# Altium schematic symbol library CF14JT10K0.SchLib: 1 symbol
Pins are listed as number, name and electrical type; pins without a type are passive.

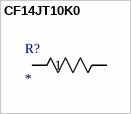
[diagram p0: symbol CF14JT10K0]

## CF14JT10K0
designator R?
No Description Available; Mfr_Name: Stackpole International
footprint STA_CF14_STP
pins: 1, 2